# Altium footprint library footprints.PcbLib: 27 footprints (part 2 of 2)
Each footprint in its own frame and in the unit in brackets; x right, y up, seen from the top. Pads: shape width x height; smd on the part's side, far side on the other; paste and mask are expansions set on the pad; w line width, h text height; cw(c..) or ccw(c..) is an arc to the next point about the centre after c.
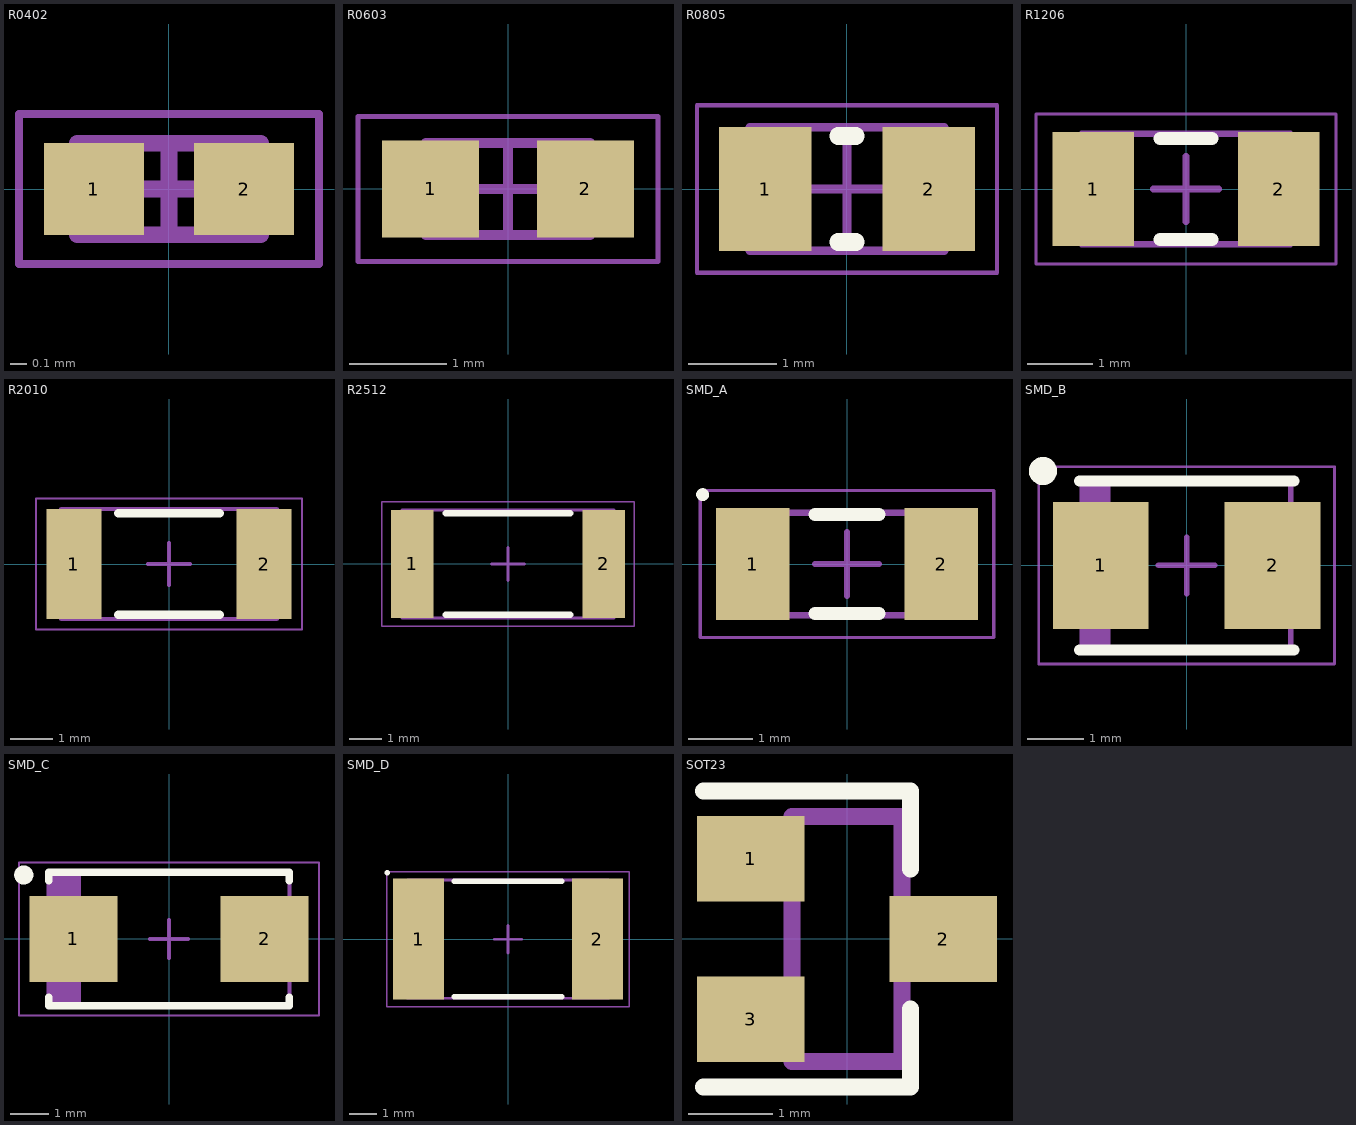
[diagram p1: the footprints below, top view; thin cyan lines are the x and y axes]

## R0402 [mm]
height 0.4
pads (2):
  rect 0.6x0.55 smd: 1(-0.45,0) 2(0.45,0)
TopAssy:
  lines w0.1: -0.55,-0.275 0.55,-0.275 0.55,0.275 -0.55,0.275 -0.55,-0.275
Mechanical 15:
  lines w0.05: -0.9,-0.45 0.9,-0.45 0.9,0.45 -0.9,0.45 -0.9,-0.45
  lines w0.1: -0.275,0 0.275,0 ; 0,-0.275 0,0.275
3D body: height 0.4, standoff 0, extent 0.35,-0.275 0.55,0.275
3D body: height 0.4, standoff 0, extent -0.55,-0.275 -0.35,0.275
3D body: height 0.4, standoff 0, extent -0.35,-0.275 0.35,0.275

## R0603 [mm]
height 0.5
pads (2):
  rect 1x1 smd: 1(-0.8,0) 2(0.8,0)
TopAssy:
  lines w0.1: -0.85,-0.475 -0.85,0.475 0.85,0.475 0.85,-0.475 -0.85,-0.475
Mechanical 15:
  lines w0.05: -1.55,-0.75 -1.55,0.75 1.55,0.75 1.55,-0.75 -1.55,-0.75
  lines w0.1: -0.475,0 0.475,0 ; 0,-0.475 0,0.475
3D body: height 0.5, standoff 0, extent -0.85,-0.475 -0.55,0.475
3D body: height 0.5, standoff 0, extent 0.55,-0.475 0.85,0.475
3D body: height 0.5, standoff 0, extent -0.55,-0.475 0.55,0.475

## R0805 [mm] "Chip Resistor, 2-Leads, Body 2,10x1,30mm, IPC Medium Density"
height 0.55
pads (2):
  rect 1.05x1.4 smd: 1(-0.925,0) 2(0.925,0)
Top Overlay:
  lines w0.2: -0.1,-0.6 0.1,-0.6 ; -0.1,0.6 0.1,0.6
TopAssy:
  lines w0.1: -1.1,-0.7 -1.1,0.7 1.1,0.7 1.1,-0.7 -1.1,-0.7
Mechanical 15:
  lines w0.05: -1.7,-0.95 -1.7,0.95 1.7,0.95 1.7,-0.95 -1.7,-0.95
  lines w0.1: -0.5,0 0.5,0 ; 0,-0.5 0,0.5
3D body "User Library-RES_2013-0805.STEP": height 0.76, standoff 0, extent -1.15,-0.675 1.15,0.675
3D body: height 0.55, standoff 0, extent -1.1,-0.7 -0.7,0.7
3D body: height 0.55, standoff 0, extent 0.7,-0.7 1.1,0.7

## R1206 [mm]
height 0.6
pads (2):
  rect 1.25x1.75 smd: 1(-1.425,0) 2(1.425,0)
Top Overlay:
  lines w0.2: -0.4,-0.775 0.4,-0.775 ; -0.4,0.775 0.4,0.775
TopAssy:
  lines w0.1: -1.6,-0.85 1.6,-0.85 1.6,0.85 -1.6,0.85 -1.6,-0.85
Mechanical 15:
  lines w0.05: -2.3,-1.15 2.3,-1.15 2.3,1.15 -2.3,1.15 -2.3,-1.15
  lines w0.1: -0.5,0 0.5,0 ; 0,-0.5 0,0.5
3D body: height 0.6, standoff 0, extent 1.1,-0.85 1.6,0.85
3D body: height 0.6, standoff 0, extent -1.6,-0.85 -1.1,0.85
3D body: height 0.6, standoff 0, extent -1.1,-0.85 1.1,0.85

## R2010 [mm]
height 0.6
pads (2):
  rect 1.3x2.6 smd: 1(-2.25,0) 2(2.25,0)
Top Overlay:
  lines w0.2: -1.2,-1.2 1.2,-1.2 ; -1.2,1.2 1.2,1.2
TopAssy:
  lines w0.1: -2.55,-1.3 -2.55,1.3 2.55,1.3 2.55,-1.3 -2.55,-1.3
Mechanical 15:
  lines w0.05: -3.15,-1.55 -3.15,1.55 3.15,1.55 3.15,-1.55 -3.15,-1.55
  lines w0.1: -0.5,0 0.5,0 ; 0,-0.5 0,0.5
3D body: height 0.6, standoff 0, extent -1.95,-1.3 1.95,1.3
3D body: height 0.6, standoff 0, extent -2.55,-1.3 -1.95,1.3
3D body: height 0.6, standoff 0, extent 1.95,-1.3 2.55,1.3

## R2512 [mm]
height 0.6
pads (2):
  rect 1.3x3.3 smd: 1(-2.925,0) 2(2.925,0)
Top Overlay:
  lines w0.2: -1.9,-1.55 1.9,-1.55 ; -1.9,1.55 1.9,1.55
TopAssy:
  lines w0.1: -3.225,-1.65 3.225,-1.65 3.225,1.65 -3.225,1.65 -3.225,-1.65
Mechanical 15:
  lines w0.05: -3.85,-1.9 3.85,-1.9 3.85,1.9 -3.85,1.9 -3.85,-1.9
  lines w0.1: -0.5,0 0.5,0 ; 0,-0.5 0,0.5
3D body: height 0.6, standoff 0, extent 2.625,-1.65 3.225,1.65
3D body: height 0.6, standoff 0, extent -3.225,-1.65 -2.625,1.65
3D body: height 0.6, standoff 0, extent -2.625,-1.65 2.625,1.65

## SMD_A [mm] "Танталовый, тип А"
height 0.6
pads (2):
  rect 1.15x1.75 smd: 1(-1.475,0) 2(1.475,0)
Top Overlay:
  circle w0.1: c-2.262,1.087 r0.05
  lines w0.2: -0.5,-0.775 0.5,-0.775 ; -0.5,0.775 0.5,0.775
TopAssy:
  lines w0.1: -1.6,-0.8 1.6,-0.8 1.6,0.8 -1.6,0.8 -1.6,-0.8
Mechanical 15:
  lines w0.05: -2.3,-1.15 2.3,-1.15 2.3,1.15 -2.3,1.15 -2.3,-1.15
  lines w0.1: -0.5,0 0.5,0 ; 0,-0.5 0,0.5
3D body: height 0.6, standoff 0, extent 1.1,-0.8 1.6,0.8
3D body: height 0.6, standoff 0, extent -1.6,-0.8 -1.1,0.8
3D body: height 0.6, standoff 0, extent -1.1,-0.8 1.1,0.8

## SMD_B [mm] "Molded Capacitor, 2-Leads, Body 3,60x2,90mm, IPC Medium Density"
height 2
pads (2):
  rect 1.7x2.25 smd: 1(-1.525,0) 2(1.525,0)
Top Overlay:
  circle w0.25: c-2.55,1.675 r0.125
  lines w0.2: -1.9,-1.5 1.9,-1.5 ; -1.9,1.5 1.9,1.5
TopAssy:
  rectangle: -1.85,-1.5 -1.352,1.5
  lines w0.1: -1.85,-1.5 -1.85,1.5 1.85,1.5 1.85,-1.5 -1.85,-1.5
Mechanical 15:
  lines w0.05: -2.625,-1.75 -2.625,1.75 2.625,1.75 2.625,-1.75 -2.625,-1.75
  lines w0.1: -0.5,0 0.5,0 ; 0,-0.5 0,0.5
3D body "CHIP_TANT_B.step": height 2, standoff 0, extent -2.07,-1.5 2.07,1.5

## SMD_C [mm]
height 2.5
pads (2):
  rect 2.3x2.25 smd: 1(-2.5,0) 2(2.5,0)
Top Overlay:
  circle w0.25: c-3.8,1.675 r0.125
  lines w0.2: -3.15,-1.525 -3.15,-1.75 3.15,-1.75 3.15,-1.525 ; -3.15,1.525 -3.15,1.75 3.15,1.75 3.15,1.525
TopAssy:
  rectangle: -3.15,-1.75 -2.303,1.75
  lines w0.1: -3.15,-1.75 -3.15,1.75 3.15,1.75 3.15,-1.75 -3.15,-1.75
Mechanical 15:
  lines w0.05: -3.925,-2 -3.925,2 3.925,2 3.925,-2 -3.925,-2
  lines w0.1: -0.5,0 0.5,0 ; 0,-0.5 0,0.5
3D body "CHIP_TANT_C.step": height 2.5, standoff 0, extent -3.37,-1.75 3.37,1.75

## SMD_D [mm]
height 2.8
pads (2):
  rect 1.85x4.4 smd: 1(-3.25,0) 2(3.25,0)
Top Overlay:
  circle w0.1: c-4.387,2.412 r0.05
  lines w0.2: -1.95,-2.1 1.95,-2.1 ; -1.95,2.1 1.95,2.1
TopAssy:
  lines w0.1: -3.65,-2.15 -3.65,2.15 3.65,2.15 3.65,-2.15 -3.65,-2.15
Mechanical 15:
  lines w0.05: -4.4,-2.45 -4.4,2.45 4.4,2.45 4.4,-2.45 -4.4,-2.45
  lines w0.1: -0.5,0 0.5,0 ; 0,-0.5 0,0.5
3D body: height 2.8, standoff 0, extent -3.65,-2.15 -2.35,2.15
3D body: height 2.8, standoff 0, extent 2.35,-2.15 3.65,2.15
3D body: height 2.8, standoff 0, extent -2.35,-2.15 2.35,2.15

## SOT23 [mm]
pads (3):
  rect 1.27x1.016 smd: 1(-1.14,0.95) 2(1.14,0) 3(-1.14,-0.95)
Top Overlay:
  lines w0.2: -1.7,-1.75 0.75,-1.75 0.75,-0.825 ; -1.7,1.75 0.75,1.75 0.75,0.825
TopAssy:
  lines w0.2: -0.9,-1.15 -0.9,-0.75 ; -0.9,0.75 -0.9,1.15 ; -0.65,-1.15 -1.2,-1.15 -1.2,-0.75 -0.65,-0.75 ; -0.65,0.75 -1.2,0.75 -1.2,1.15 -0.65,1.15 ; 0.65,-0.2 1.2,-0.2 1.2,0.2 0.65,0.2 ; 0.9,-0.2 0.9,0.2 ; -0.65,-1.45 -0.65,1.45 0.65,1.45 0.65,-1.45 -0.65,-1.45
3D body "SOT-23.STEP": height 1.1, standoff 0, extent -1.15,-1.5 1.15,1.5